# Altium schematic symbol library SamacSys.SchLib: 19 symbols
Pins are listed as number, name and electrical type; pins without a type are passive.

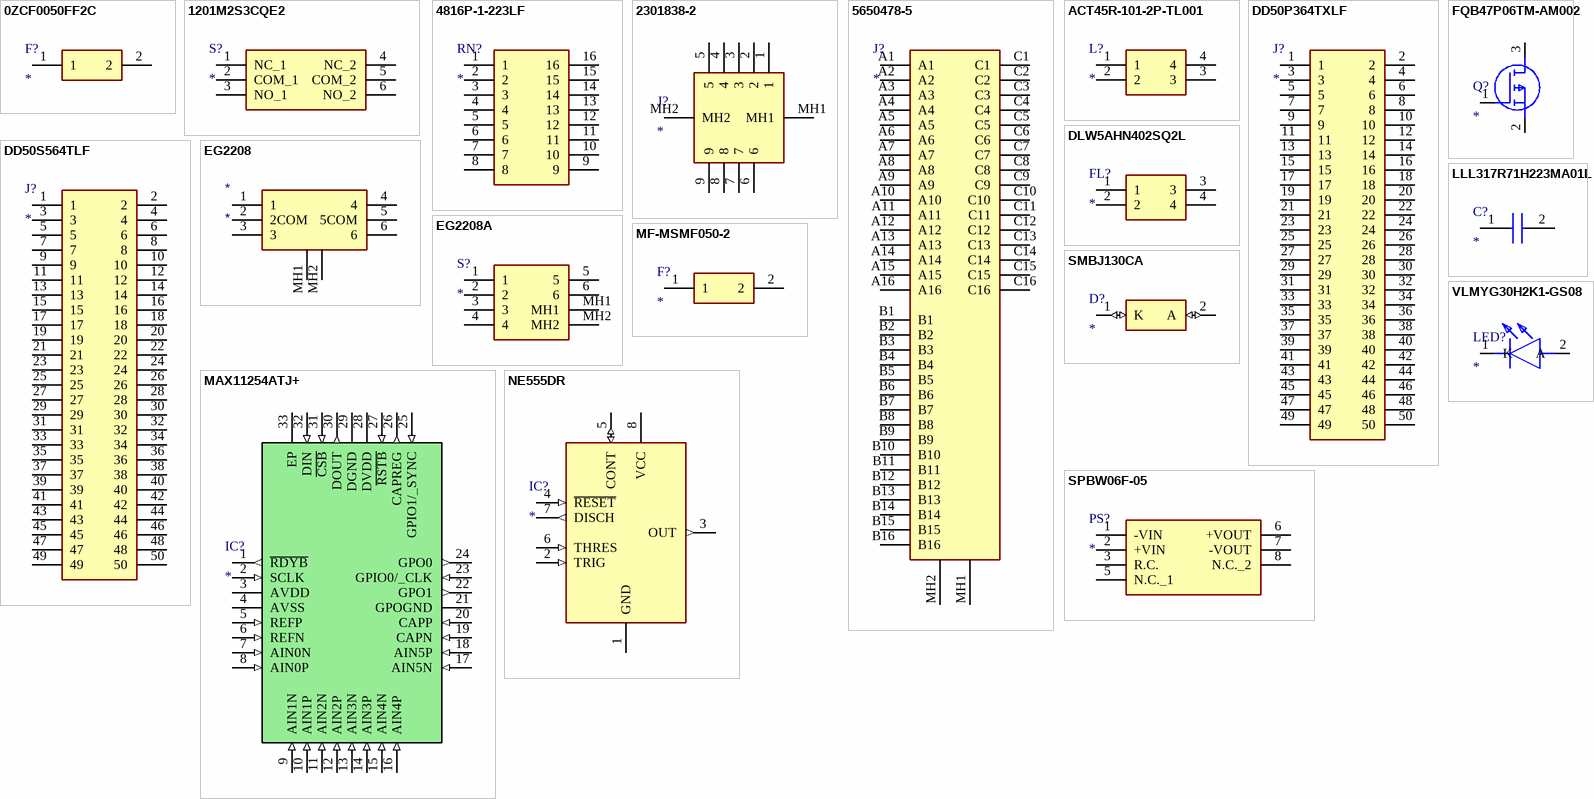
[diagram p0: symbols 0ZCF0050FF2C to VLMYG30H2K1-GS08]

## 0ZCF0050FF2C
designator F?
Fuse; Manufacturer_Name: Bel-Stewart; Manufacturer_Part_Number: 0ZCF0050FF2C; Datasheet Link: https://componentsearchengine.com/Datasheets/2/0ZCF0050FF2C.pdf; Height: 1.15mm; Mouser Part Number: 530-0ZCF0050FF2C; Mouser Price/Stock: https://www.mouser.com/Search/Refine.aspx?Keyword=530-0ZCF0050FF2C
footprint FUSC7451X115N
pins: 1, 2

## 1201M2S3CQE2
designator S?
Switch; Manufacturer_Name: C&K Switches; Manufacturer_Part_Number: 1201M2S3CQE2; Allied_Number: 70269986; Datasheet Link: https://www.ckswitches.com/media/1429/1000.pdf; Height: 11.43mm; Mouser Part Number: 611-1201M2S3CQE2; Allied Price/Stock: https://www.alliedelec.com/c-k-1201m2s3cqe2/70269986/
footprint 1201M2S3CQE2
pins: 1 NC_1, 2 COM_1, 3 NO_1, 4 NC_2, 5 COM_2, 6 NO_2

## 4816P-1-223LF
designator RN?
Resistor Network; Manufacturer_Name: Bourns; Manufacturer_Part_Number: 4816P-1-223LF; Datasheet Link: https://componentsearchengine.com/Datasheets/1/4816P-1-223LF.pdf; Height: 2.15mm; Mouser Part Number: 652-4816P-1LF-22K; Mouser Price/Stock: https://www.mouser.com/Search/Refine.aspx?Keyword=652-4816P-1LF-22K
footprint SOIC127P762X215-16N
pins: 1, 2, 3, 4, 5, 6, 7, 8, 9, 10, 11, 12, 13, 14, 15, 16

## 2301838-2
designator J?
Connector; Manufacturer_Name: TE Connectivity; Manufacturer_Part_Number: 2301838-2; Description: TE CONNECTIVITY - 2301838-2 - D Sub Connector; Datasheet Link: https://www.mouser.com/datasheet/2/418/NG_CD_2301838_E-1371771.pdf; Height: 12.5mm; Mouser Part Number: 571-2301838-2; Mouser Price/Stock: https://www.mouser.com/Search/Refine.aspx?Keyword=571-2301838-2
footprint 23018382
pins: 1, 2, 3, 4, 5, 6, 7, 8, 9, MH1, MH2

## 5650478-5
designator J?
Connector; Manufacturer_Name: TE Connectivity; Manufacturer_Part_Number: 5650478-5; Allied_Number: 70085861; Datasheet Link: http://www.te.com/commerce/DocumentDelivery/DDEController?Action=showdoc&DocId=Customer+Drawing%7F650473%7FS%7Fpdf%7FEnglish%7FENG_CD_650473_S_baseFilename.pdf%7F5650478-5; Mouser Part Number: 571-5650478-5; Mouser Price/Stock: https://www.mouser.com/Search/Refine.aspx?Keyword=571-5650478-5; RS Part Number: 6812278; RS Price/Stock: https://uk.rs-online.com/web/p/products/6812278; Allied Price/Stock: https://www.alliedelec.com/te-connectivity-5650478-5/70085861/
footprint 5650478-5
pins: A1, A2, A3, A4, A5, A6, A7, A8, A9, A10, A11, A12, A13, A14, A15, A16, B1, B2, B3, B4, B5, B6, B7, B8, B9, B10, B11, B12, B13, B14, B15, B16, C1, C2, C3, C4, C5, C6, C7, C8, C9, C10, C11, C12, C13, C14, C15, C16, MH1, MH2

## ACT45R-101-2P-TL001
designator L?
Inductor; Manufacturer_Name: TDK; Manufacturer_Part_Number: ACT45R-101-2P-TL001; Datasheet Link: https://product.tdk.com/info/en/catalog/datasheets/cmf_automotive_signal_act45r_en.pdf; Height: 3mm; Mouser Part Number: 810-ACT45R1012PTL001; Mouser Price/Stock: https://www.mouser.com/Search/Refine.aspx?Keyword=810-ACT45R1012PTL001; RS Part Number: 8319286P; RS Price/Stock: http://uk.rs-online.com/web/p/products/8319286P
footprint ACT45R1012PTL001
pins: 1, 2, 3, 4

## DD50P364TXLF
designator J?
Connector; Manufacturer_Name: FCI; Manufacturer_Part_Number: DD50P364TXLF; Datasheet Link: https://componentsearchengine.com/Datasheets/1/DD50P364TXLF.pdf; Mouser Part Number: 649-DD50P364TXLF; Mouser Price/Stock: https://www.mouser.com/Search/Refine.aspx?Keyword=649-DD50P364TXLF
footprint DD50P364TXLF
pins: 1, 2, 3, 4, 5, 6, 7, 8, 9, 10, 11, 12, 13, 14, 15, 16, 17, 18, 19, 20, 21, 22, 23, 24, 25, 26, 27, 28, 29, 30, 31, 32, 33, 34, 35, 36, 37, 38, 39, 40, 41, 42, 43, 44, 45, 46, 47, 48, 49, 50

## DD50S564TLF
designator J?
Connector; Manufacturer_Name: FCI; Manufacturer_Part_Number: DD50S564TLF; Allied_Number: 70605931; Datasheet Link: http://docs-emea.rs-online.com/webdocs/0e52/0900766b80e52c42.pdf; Mouser Part Number: 649-DD50S564TLF; Mouser Price/Stock: https://www.mouser.com/Search/Refine.aspx?Keyword=649-DD50S564TLF; RS Part Number: 1217375; RS Price/Stock: https://uk.rs-online.com/web/p/products/1217375; Allied Price/Stock: http://www.alliedelec.com/amphenol-fci-dd50s564tlf/70605931/
footprint DD50S564TLF
pins: 1, 2, 3, 4, 5, 6, 7, 8, 9, 10, 11, 12, 13, 14, 15, 16, 17, 18, 19, 20, 21, 22, 23, 24, 25, 26, 27, 28, 29, 30, 31, 32, 33, 34, 35, 36, 37, 38, 39, 40, 41, 42, 43, 44, 45, 46, 47, 48, 49, 50

## DLW5AHN402SQ2L
designator FL?
Filter; Manufacturer_Name: Murata Electronics; Manufacturer_Part_Number: DLW5AHN402SQ2L; Datasheet Link: https://www.murata.com/en-us/products/productdetail?partno=DLW5AHN402SQ2%23; Mouser Part Number: 81-DLW5AHN402SQ2; Mouser Price/Stock: https://www.mouser.com/Search/Refine.aspx?Keyword=81-DLW5AHN402SQ2; RS Part Number: 1888801P; RS Price/Stock: http://uk.rs-online.com/web/p/products/1888801P
footprint DLW5AHN402SQ2K
pins: 1, 2, 3, 4

## EG2208
designator *
DPDT Switch; Manufacturer_Name: E-Switch; Manufacturer_Part_Number: EG2208A; Datasheet Link: https://sten-eswitch-13110800-production.s3.amazonaws.com/system/asset/product_line/data_sheet/119/EG.pdf; Height: 5mm; Mouser Part Number: 612-EG2208
footprint EG2208
pins: 1, 2 2COM, 3, 4, 5 5COM, 6, MH1, MH2

## EG2208A
designator S?
Switch; Manufacturer_Name: E-Switch; Manufacturer_Part_Number: EG2208A; Datasheet Link: http://www.mouser.com/datasheet/2/140/EG-345873.pdf; Height: 5mm; Mouser Part Number: 612-EG2208A; Mouser Price/Stock: https://www.mouser.com/Search/Refine.aspx?Keyword=612-EG2208A
footprint EG2208A
pins: 1, 2, 3, 4, 5, 6, MH1, MH2

## FQB47P06TM-AM002
designator Q?
MOSFET (P-Channel); Manufacturer_Name: Fairchild Semiconductor; Manufacturer_Part_Number: FQB47P06TM-AM002; Datasheet Link: https://www.onsemi.com/pub/Collateral/FQB47P06-D.PDF; Mouser Part Number: 512-FQB47P06TM_AM002; Mouser Price/Stock: https://www.mouser.com/Search/Refine.aspx?Keyword=512-FQB47P06TM_AM002
footprint FFSB20120AF085
pins: 1 G, 2 S, 3 D

## LLL317R71H223MA01L
designator C?
Capacitor; Manufacturer_Name: Murata Electronics; Manufacturer_Part_Number: LLL317R71H223MA01L; Datasheet Link: https://psearch.en.murata.com/capacitor/product/LLL317R71H223MA01%23.html; Height: 0.8mm; Mouser Part Number: 81-LLL317R71H223M01L; Mouser Price/Stock: https://www.mouser.com/Search/Refine.aspx?Keyword=81-LLL317R71H223M01L
footprint CAPC1632X80N
pins: 1, 2

## MAX11254ATJ+
designator IC?
Integrated Circuit; Manufacturer_Name: Maxim Integrated; Manufacturer_Part_Number: MAX11254ATJ+; Datasheet Link: https://componentsearchengine.com/Datasheets/1/MAX11254ATJ+.pdf; Height: 0.8mm; Mouser Part Number: 700-MAX11254ATJ+; Mouser Price/Stock: https://www.mouser.com/Search/Refine.aspx?Keyword=700-MAX11254ATJ%2B; RS Part Number: 1904590; RS Price/Stock: http://uk.rs-online.com/web/p/products/1904590
footprint QFN50P500X500X80-33N
pins: 1 ~{RDYB} (out), 2 SCLK (in), 3 AVDD (power), 4 AVSS (power), 5 REFP (in), 6 REFN (in), 7 AIN0N (in), 8 AIN0P (in), 9 AIN1N (in), 10 AIN1P (in), 11 AIN2N (in), 12 AIN2P (in), 13 AIN3N (in), 14 AIN3P (in), 15 AIN4N (in), 16 AIN4P (in), 17 AIN5N (in), 18 AIN5P (in), 19 CAPN (in), 20 CAPP (in), 21 GPOGND (power), 22 GPO1 (out), 23 GPIO0/_CLK (in), 24 GPO0 (out), 25 GPIO1/_SYNC (in), 26 CAPREG (out), 27 ~{RSTB} (in), 28 DVDD (power), 29 DGND (power), 30 DOUT (out), 31 ~{CSB} (in), 32 DIN (in), 33 EP (power)

## MF-MSMF050-2
designator F?
Fuse; Manufacturer_Name: Bourns; Manufacturer_Part_Number: MF-MSMF050-2; Allied_Number: 70153466; Datasheet Link: https://www.bourns.com/pdfs/mfmsmf.pdf; Height: 0.85mm; Mouser Part Number: 652-MF-MSMF050-2; Mouser Price/Stock: https://www.mouser.com/Search/Refine.aspx?Keyword=652-MF-MSMF050-2; RS Part Number: 6478156P; RS Price/Stock: http://uk.rs-online.com/web/p/products/6478156P; Allied Price/Stock: https://www.alliedelec.com/bourns-mf-msmf050-2/70153466/
footprint FUSC4632X85N
pins: 1, 2

## NE555DR
designator IC?
Integrated Circuit; Manufacturer_Name: Texas Instruments; Manufacturer_Part_Number: NE555DR; Datasheet Link: http://www.ti.com/lit/ds/symlink/ne555.pdf; Height: 1.75mm; Mouser Part Number: 595-NE555DR; Mouser Price/Stock: https://www.mouser.com/Search/Refine.aspx?Keyword=595-NE555DR; RS Part Number: 1218414; RS Price/Stock: http://uk.rs-online.com/web/p/products/1218414
footprint SOIC127P600X175-8N
pins: 1 GND (power), 2 TRIG (in), 3 OUT (out), 4 ~{RESET} (in), 5 CONT (io), 6 THRES (in), 7 DISCH (out), 8 VCC (power)

## SMBJ130CA
designator D?
TVS Diode (Bi-directional); Manufacturer_Name: LITTELFUSE; Manufacturer_Part_Number: SMBJ130CA; Datasheet Link: https://componentsearchengine.com/Datasheets/1/SMBJ130CA.pdf; Height: 2.44mm
footprint DIOC5436X244N
pins: 1 K (io), 2 A (io)

## SPBW06F-05
designator PS?
Power Supply; Manufacturer_Name: Mean Well; Manufacturer_Part_Number: SPBW06F-05; Allied_Number: 71028194; Datasheet Link: http://www.meanwellusa.com/productPdf.aspx?i=795; Height: 11.6mm; Mouser Part Number: 709-SPBW06F-05; Mouser Price/Stock: https://www.mouser.com/Search/Refine.aspx?Keyword=709-SPBW06F-05; Allied Price/Stock: https://www.alliedelec.com/mean-well-usa-spbw06f-05/71028194/
footprint SPBW06F05
pins: 1 -VIN, 2 +VIN, 3 R.C., 5 N.C._1, 6 +VOUT, 7 -VOUT, 8 N.C._2

## VLMYG30H2K1-GS08
designator LED?
LED; Manufacturer_Name: Vishay; Manufacturer_Part_Number: VLMYG30H2K1-GS08; Datasheet Link: https://mouser.componentsearchengine.com/Datasheets/1/VLMYG30H2K1-GS08.pdf; Height: 1.85mm
footprint LEDM3128X185N
pins: 1 K, 2 A